# EAGLE library part USB-AB-MICRO (library Mechanical)
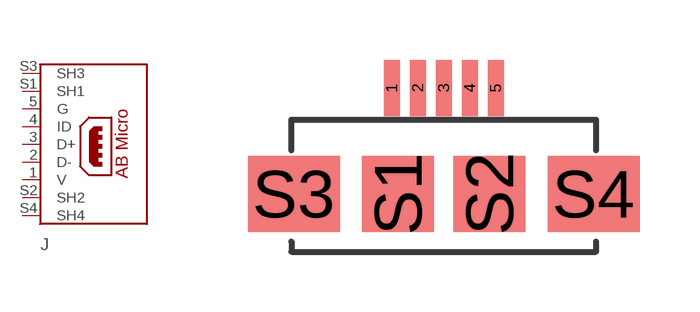
[diagram p76: symbol with the pads of USB-AB-MICRO; footprint USB-AB-MICRO]

Designator prefix J

## USB-AB-MICRO  [USB-AB-MICRO]
1  V
2  D-
3  D+
4  ID
5  G
S1  SH1
S2  SH2
S3  SH3
S4  SH4

## Footprint USB-AB-MICRO (pad centres in mm)
Cherng Weei UMMCF-051MBCB-CF535, USB micro-AB receptacle
smd 0.4 x 1.4: 1 -1.3,4.1; 2 -0.65,4.1; 3 0,4.1; 4 0.65,4.1; 5 1.3,4.1
smd 1.8 x 1.9: S1 -1.15,1.45; S2 1.14,1.45
smd 2.3 x 1.9: S3 -3.75,1.45; S4 3.75,1.45